# EAGLE library part DRESDEN_RFMEGA128 (library karlnet-parts)
This is a modified ATmega128RFA1 part, to to match Dresden Elektronik's deRFmega128-22XX modules
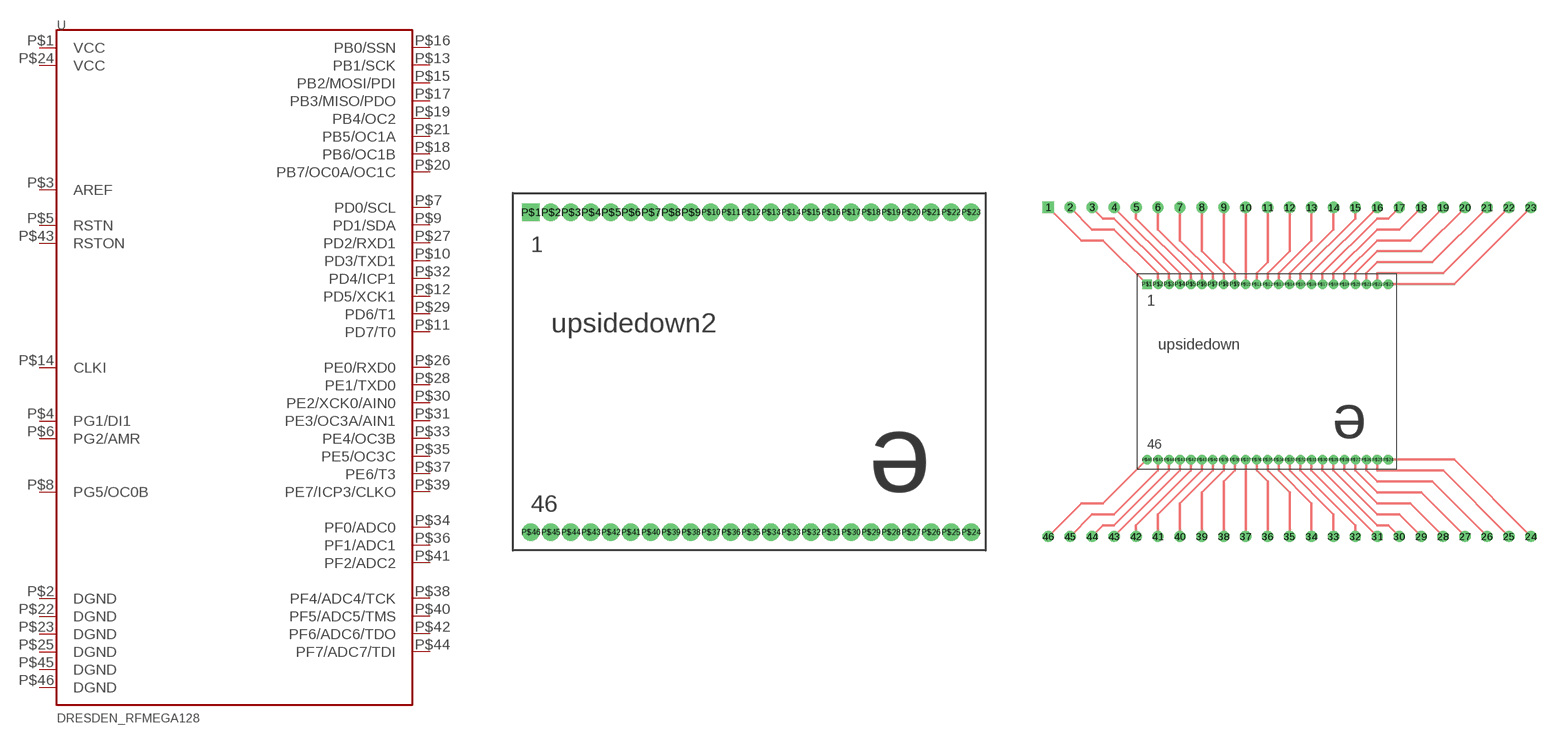
[diagram p1: symbol with the pads of DRESDEN-DERFMEGA128; footprints DRESDEN-DERFMEGA128, DRESDEN-DERFMEGA128-BREAK]

Designator prefix U

## DRESDEN_RFMEGA128BARE  [DRESDEN-DERFMEGA128]
P$1  VCC
P$2  DGND
P$3  AREF
P$4  PG1/DI1
P$5  RSTN
P$6  PG2/AMR
P$7  PD0/SCL
P$8  PG5/OC0B
P$9  PD1/SDA
P$10  PD3/TXD1
P$11  PD7/T0
P$12  PD5/XCK1
P$13  PB1/SCK
P$14  CLKI
P$15  PB2/MOSI/PDI
P$16  PB0/SSN
P$17  PB3/MISO/PDO
P$18  PB6/OC1B
P$19  PB4/OC2
P$20  PB7/OC0A/OC1C
P$21  PB5/OC1A
P$22  DGND
P$23  DGND
P$24  VCC
P$25  DGND
P$26  PE0/RXD0
P$27  PD2/RXD1
P$28  PE1/TXD0
P$29  PD6/T1
P$30  PE2/XCK0/AIN0
P$31  PE3/OC3A/AIN1
P$32  PD4/ICP1
P$33  PE4/OC3B
P$34  PF0/ADC0
P$35  PE5/OC3C
P$36  PF1/ADC1
P$37  PE6/T3
P$38  PF4/ADC4/TCK
P$39  PE7/ICP3/CLKO
P$40  PF5/ADC5/TMS
P$41  PF2/ADC2
P$42  PF6/ADC6/TDO
P$43  RSTON
P$44  PF7/ADC7/TDI
P$45  DGND
P$46  DGND

## DRESDEN_RFMEGA128BREAK  [DRESDEN-DERFMEGA128-BREAK]
Pads as for DRESDEN-DERFMEGA128

## DRESDEN_RFMEGA128NS  [DRESDEN-DERFMEGA128-NS]
Pads as for DRESDEN-DERFMEGA128

## DRESDEN_RFMEGA128  [DRESDEN-DERFMEGA128-TOPSIDE]
Pads as for DRESDEN-DERFMEGA128

## Footprint DRESDEN-DERFMEGA128 (pad centres in mm)
Dresden Elektronik's through hole deRFmega128-22-A00 and deRFmega128-22-A02. Designed for the module to be mounted metal can DOWN. (which is the way it's leads are longest) pin spacing is _I think_ right, but drills are way off.
drill 0.6 pad 1.006 square: P$1 -10.16,13.97
drill 0.6 pad 1.006 round: P$2 -8.89,13.97; P$3 -7.62,13.97; P$4 -6.35,13.97; P$5 -5.08,13.97; P$6 -3.81,13.97; P$7 -2.54,13.97; P$8 -1.27,13.97; P$9 0,13.97; P$10 1.27,13.97; P$11 2.54,13.97; P$12 3.81,13.97; P$13 5.08,13.97; P$14 6.35,13.97; P$15 7.62,13.97; P$16 8.89,13.97; P$17 10.16,13.97; P$18 11.43,13.97; P$19 12.7,13.97; P$20 13.97,13.97; P$21 15.24,13.97; P$22 16.51,13.97; P$23 17.78,13.97; P$24 17.78,-6.35; P$25 16.51,-6.35; P$26 15.24,-6.35; P$27 13.97,-6.35; P$28 12.7,-6.35; P$29 11.43,-6.35; P$30 10.16,-6.35; P$31 8.89,-6.35; P$32 7.62,-6.35; P$33 6.35,-6.35; P$34 5.08,-6.35; P$35 3.81,-6.35; P$36 2.54,-6.35; P$37 1.27,-6.35; P$38 0,-6.35; P$39 -1.27,-6.35; P$40 -2.54,-6.35; P$41 -3.81,-6.35; P$42 -5.08,-6.35; P$43 -6.35,-6.35; P$44 -7.62,-6.35; P$45 -8.89,-6.35; P$46 -10.16,-6.35

## Footprint DRESDEN-DERFMEGA128-BREAK (pad centres in mm)
Dresden Elektronik's through hole deRFmega128-22-A00 and deRFmega128-22-A02. Designed for the module to be mounted metal can DOWN. (which is the way it's leads are longest) pin spacing is _I think_ right, but drills are way off.
drill 0.8 square: 1 -21.59,22.86
drill 0.8 round: 2 -19.05,22.86; 3 -16.51,22.86; 4 -13.97,22.86; 5 -11.43,22.86; 6 -8.89,22.86; 7 -6.35,22.86; 8 -3.81,22.86; 9 -1.27,22.86; 10 1.27,22.86; 11 3.81,22.86; 12 6.35,22.86; 13 8.89,22.86; 14 11.43,22.86; 15 13.97,22.86; 16 16.51,22.86; 17 19.05,22.86; 18 21.59,22.86; 19 24.13,22.86; 20 26.67,22.86; 21 29.21,22.86; 22 31.75,22.86; 23 34.29,22.86; 24 34.29,-15.24; 25 31.75,-15.24; 26 29.21,-15.24; 27 26.67,-15.24; 28 24.13,-15.24; 29 21.59,-15.24; 30 19.05,-15.24; 31 16.51,-15.24; 32 13.97,-15.24; 33 11.43,-15.24; 34 8.89,-15.24; 35 6.35,-15.24; 36 3.81,-15.24; 37 1.27,-15.24; 38 -1.27,-15.24; 39 -3.81,-15.24; 40 -6.35,-15.24; 41 -8.89,-15.24; 42 -11.43,-15.24; 43 -13.97,-15.24; 44 -16.51,-15.24; 45 -19.05,-15.24; 46 -21.59,-15.24
drill 0.6 pad 1.006 square: P$1 -10.16,13.97
drill 0.6 pad 1.006 round: P$2 -8.89,13.97; P$3 -7.62,13.97; P$4 -6.35,13.97; P$5 -5.08,13.97; P$6 -3.81,13.97; P$7 -2.54,13.97; P$8 -1.27,13.97; P$9 0,13.97; P$10 1.27,13.97; P$11 2.54,13.97; P$12 3.81,13.97; P$13 5.08,13.97; P$14 6.35,13.97; P$15 7.62,13.97; P$16 8.89,13.97; P$17 10.16,13.97; P$18 11.43,13.97; P$19 12.7,13.97; P$20 13.97,13.97; P$21 15.24,13.97; P$22 16.51,13.97; P$23 17.78,13.97; P$24 17.78,-6.35; P$25 16.51,-6.35; P$26 15.24,-6.35; P$27 13.97,-6.35; P$28 12.7,-6.35; P$29 11.43,-6.35; P$30 10.16,-6.35; P$31 8.89,-6.35; P$32 7.62,-6.35; P$33 6.35,-6.35; P$34 5.08,-6.35; P$35 3.81,-6.35; P$36 2.54,-6.35; P$37 1.27,-6.35; P$38 0,-6.35; P$40 -2.54,-6.35; P$41 -3.81,-6.35; P$42 -5.08,-6.35; P$43 -6.35,-6.35; P$44 -7.62,-6.35; P$45 -8.89,-6.35; P$46 -10.16,-6.35
drill 0.6 pad 1.016 round: P$39 -1.27,-6.35

## Footprint DRESDEN-DERFMEGA128-NS (pad centres in mm)
Dresden Elektronik's deRFmega128 modules, through hole, metal can DOWN. This is the way the leads are longest. This version has no silkscreen box, so its easier to put pin labels nearby.
drill 0.6 pad 1.006 square: P$1 -13.97,10.16
drill 0.6 pad 1.006 round: P$2 -12.7,10.16; P$3 -11.43,10.16; P$4 -10.16,10.16; P$5 -8.89,10.16; P$6 -7.62,10.16; P$7 -6.35,10.16; P$8 -5.08,10.16; P$9 -3.81,10.16; P$10 -2.54,10.16; P$11 -1.27,10.16; P$12 0,10.16; P$13 1.27,10.16; P$14 2.54,10.16; P$15 3.81,10.16; P$16 5.08,10.16; P$17 6.35,10.16; P$18 7.62,10.16; P$19 8.89,10.16; P$20 10.16,10.16; P$21 11.43,10.16; P$22 12.7,10.16; P$23 13.97,10.16; P$24 13.97,-10.16; P$25 12.7,-10.16; P$26 11.43,-10.16; P$27 10.16,-10.16; P$28 8.89,-10.16; P$29 7.62,-10.16; P$30 6.35,-10.16; P$31 5.08,-10.16; P$32 3.81,-10.16; P$33 2.54,-10.16; P$34 1.27,-10.16; P$35 0,-10.16; P$36 -1.27,-10.16; P$37 -2.54,-10.16; P$38 -3.81,-10.16; P$39 -5.08,-10.16; P$40 -6.35,-10.16; P$41 -7.62,-10.16; P$42 -8.89,-10.16; P$43 -10.16,-10.16; P$44 -11.43,-10.16; P$45 -12.7,-10.16; P$46 -13.97,-10.16

## Footprint DRESDEN-DERFMEGA128-TOPSIDE (pad centres in mm)
Dresden Elektronik's deRFmega128 modules, with holes numbered and laid out for the module can side up. Based on the verified -NS layout, but flipped for right way up mounting, which clicks into place better with the SAMTEC connectors I have.
drill 0.6 pad 1.006 square: P$1 0,0
drill 0.6 pad 1.006 round: P$2 1.27,0; P$3 2.54,0; P$4 3.81,0; P$5 5.08,0; P$6 6.35,0; P$7 7.62,0; P$8 8.89,0; P$9 10.16,0; P$10 11.43,0; P$11 12.7,0; P$12 13.97,0; P$13 15.24,0; P$14 16.51,0; P$15 17.78,0; P$16 19.05,0; P$17 20.32,0; P$18 21.59,0; P$19 22.86,0; P$20 24.13,0; P$21 25.4,0; P$22 26.67,0; P$23 27.94,0; P$24 27.94,20.32; P$25 26.67,20.32; P$26 25.4,20.32; P$27 24.13,20.32; P$28 22.86,20.32; P$29 21.59,20.32; P$30 20.32,20.32; P$31 19.05,20.32; P$32 17.78,20.32; P$33 16.51,20.32; P$34 15.24,20.32; P$35 13.97,20.32; P$36 12.7,20.32; P$37 11.43,20.32; P$38 10.16,20.32; P$39 8.89,20.32; P$40 7.62,20.32; P$41 6.35,20.32; P$42 5.08,20.32; P$43 3.81,20.32; P$44 2.54,20.32; P$45 1.27,20.32; P$46 0,20.32